# Altium schematic symbol library PowerIC.SchLib: 1 symbol
Pins are listed as number, name and electrical type; pins without a type are passive.

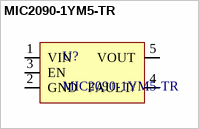
[diagram p0: symbol MIC2090-1YM5-TR]

## MIC2090-1YM5-TR
designator U?
Manufacturer: Microchip Technology; Part #: MIC2090-1YM5-TR
footprint SOT23-5
pins: 1 VIN (power), 2 GND (power), 3 EN (power), 4 FAULT/ (power), 5 VOUT (power)